# Altium schematic symbol library SIT8008ACL13-18E-100.000000E.SchLib: 1 symbol
Pins are listed as number, name and electrical type; pins without a type are passive.

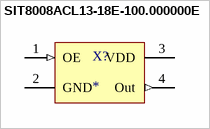
[diagram p0: symbol SIT8008ACL13-18E-100.000000E]

## SIT8008ACL13-18E-100.000000E
designator X?
footprint SIT8008ACL13-18E-100.000000E
pins: 1 OE (in), 2 GND (power), 3 VDD (power), 4 Out (out)